# EAGLE library part 104809-08 (library con-tyco-modu)
HEADER
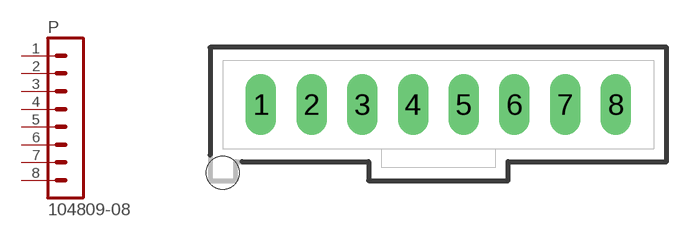
[diagram p49: symbol with the pads of 104809-08; footprint 104809-08]

Designator prefix P

## 104809-08  [104809-08]
1  1  pas
2  2  pas
3  3  pas
4  4  pas
5  5  pas
6  6  pas
7  7  pas
8  8  pas

## Footprint 104809-08 (pad centres in mm)
HEADER
drill 1.016 long: 1 -8.89,0; 2 -6.35,0; 3 -3.81,0; 4 -1.27,0; 5 1.27,0; 6 3.81,0; 7 6.35,0; 8 8.89,0
hole 1.651 at -10.795,-3.429